# Altium footprint library SW_JS0204AP4-R.PcbLib: 1 footprints
Each footprint in its own frame and in the unit in brackets; x right, y up, seen from the top. Pads: shape width x height; smd on the part's side, far side on the other; paste and mask are expansions set on the pad; w line width, h text height; cw(c..) or ccw(c..) is an arc to the next point about the centre after c.
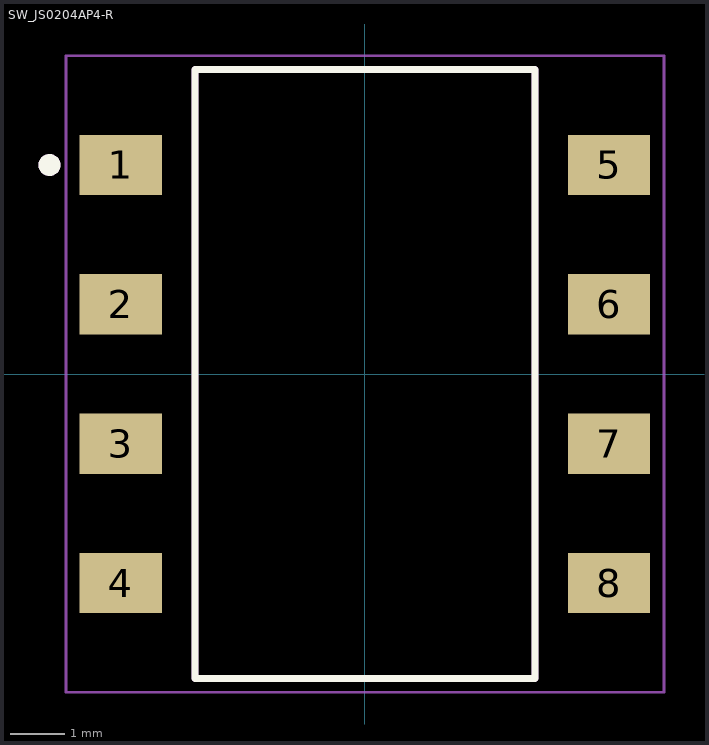
[diagram p0: the footprint, top view; thin cyan lines are the x and y axes]

## SW_JS0204AP4-R [mm]
height 4.3
pads (8):
  rect 1.5x1.1 smd: 1(-4.45,3.81) 2(-4.45,1.27) 3(-4.45,-1.27) 4(-4.45,-3.81) 5(4.45,3.81) 6(4.45,1.27) 7(4.45,-1.27) 8(4.45,-3.81)
Top Overlay:
  circle w0.2: c-5.75,3.81 r0.1
  lines w0.127: -3.1,-5.55 -3.1,5.55 3.1,5.55 3.1,-5.55 -3.1,-5.55
Assembly Top:
  circle w0.2: c-5.75,3.81 r0.1
  lines w0.127: -3.1,-5.55 -3.1,5.55 3.1,5.55 3.1,-5.55 -3.1,-5.55
Courtyard Top:
  lines w0.05: -5.45,-5.8 -5.45,5.8 5.45,5.8 5.45,-5.8 -5.45,-5.8
3D body "A6SN-4101--3DModel-STEP-273799.STEP": height 4.55, standoff 0, extent -4.445,-6.05 4.855,6.05